# EAGLE library part IRF7555 (library CEDT)
IRF7555 International Rectifier HEXFET® Power MOSFET (P Channel) VDSS = -20V RDS(on) = 0.055 Ohms New trench HEXFET power MOSFETs from International Rectifier utilize advanced processing techniques to achieve extremely low on-resistance per silicon area. This benefit, combined with the ruggedized device design that HEXFET Power MOSFETs are well known for, provides the designer with an extremely efficient and reliable device for use in a wide variety of applications. The new Micro8 package has half the footprint area of the standard SO-8. This makes the Micro8 an ideal package for applications where printed circuit board space is at a premium. The low profile (less than 1.1mm) of the Micro8 will allow it to fit easily into extremely thin application environments such as portable electronics and PCMCIA cards. Anurag Chugh
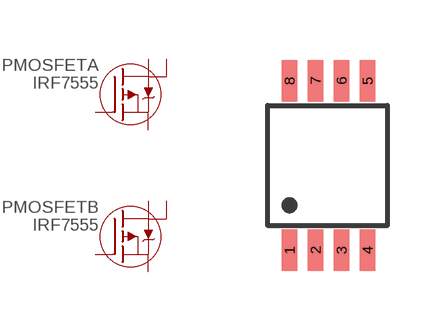
[diagram p21: symbol with the pads of MICRO8; footprint MICRO8]

Designator prefix PMOSFET; gates A=P-CHANNEL-MOSFET B=P-CHANNEL-MOSFET

## IRF7555  [MICRO8]
1  A:S
2  A:G
3  B:S
4  B:G
5  B:D
6  B:D
7  A:D
8  A:D

## Footprint MICRO8 (pad centres in mm)
smd 0.38 x 1.04: 1 0,-2.12; 2 0.65,-2.12; 3 1.3,-2.12; 4 1.95,-2.12; 5 1.95,2.12; 6 1.3,2.12; 7 0.65,2.12; 8 0,2.12